# EAGLE library part OKOKOKEAGLELIBRARIES_LT3469 (library rose)
LT3469 DATASHEET: http://cds.linear.com/docs/en/datasheet/3469f.pdf The LT® 3469 is a transconductance (gm) amplifier that can drive outputs up to 33V from a 5V or 12V supply. An internal switching regulator generates a boosted supply voltage for the gm amplifier. The amplifier can drive capacitive loads in the range of 5nF to 300nF. Slew rate is limited only by the maximum output current. The 35V output voltage capability of the switching regulator, along with the high supply voltage of the amplifier, combine to allow the wide output voltage range needed to drive a piezoceramic microactuator
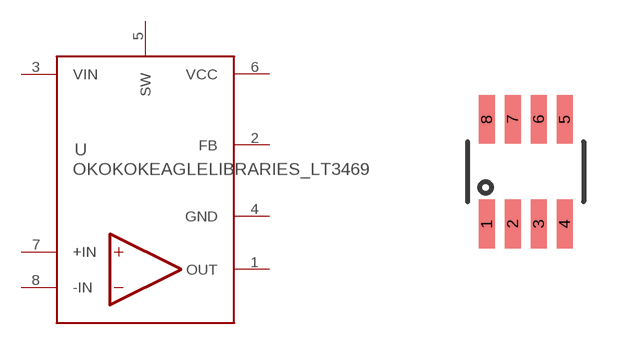
[diagram p3: symbol with the pads of OKOKOKEAGLELIBRARIES_TSOT-23-8; footprint OKOKOKEAGLELIBRARIES_TSOT-23-8]

Designator prefix -

## OKOKOKEAGLELIBRARIES_LT3469 (MPN: LT3469ETS8#TRMPBF)  [OKOKOKEAGLELIBRARIES_TSOT-23-8]
1  OUT
2  FB
3  VIN
4  GND
5  SW
6  VCC
7  +IN
8  -IN

## Footprint OKOKOKEAGLELIBRARIES_TSOT-23-8 (pad centres in mm)
smd 0.4 x 1.22: 1 -0.975,-1.31; 2 -0.325,-1.31; 3 0.325,-1.31; 4 0.975,-1.31; 5 0.975,1.31; 6 0.325,1.31; 7 -0.325,1.31; 8 -0.975,1.31